# Altium footprint library BJT_PNP.PcbLib: 1 footprints
Each footprint in its own frame and in the unit in brackets; x right, y up, seen from the top. Pads: shape width x height; smd on the part's side, far side on the other; paste and mask are expansions set on the pad; w line width, h text height; cw(c..) or ccw(c..) is an arc to the next point about the centre after c.
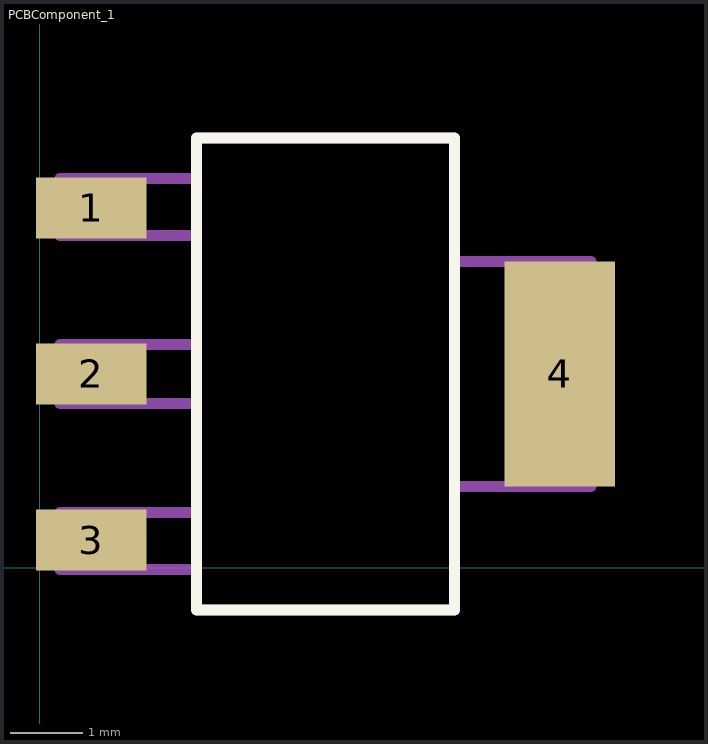
[diagram p0: the footprint, top view; thin cyan lines are the x and y axes]

## PCBComponent_1 [mil]
pads (4):
  rect 60x33 smd: 1(28,195) 2(28,105) 3(28,15)
  rect 60x122 smd: 4(282,105)
Top Overlay:
  lines w6: 85,-23 85,233 225,233 225,-23 85,-23
Mechanical 13:
  lines w6: 11,-1 85,-1 85,30 11,30 11,-1 ; 11,89 85,89 85,121 11,121 11,89 ; 11,180 85,180 85,211 11,211 11,180 ; 85,-23 85,233 225,233 225,-23 85,-23 ; 225,44 299,44 299,166 225,166 225,44